# Altium footprint library TECLADO-G5-5A.pcbLib.PcbLib: 15 footprints
Each footprint in its own frame and in the unit in brackets; x right, y up, seen from the top. Pads: shape width x height; smd on the part's side, far side on the other; paste and mask are expansions set on the pad; w line width, h text height; cw(c..) or ccw(c..) is an arc to the next point about the centre after c.
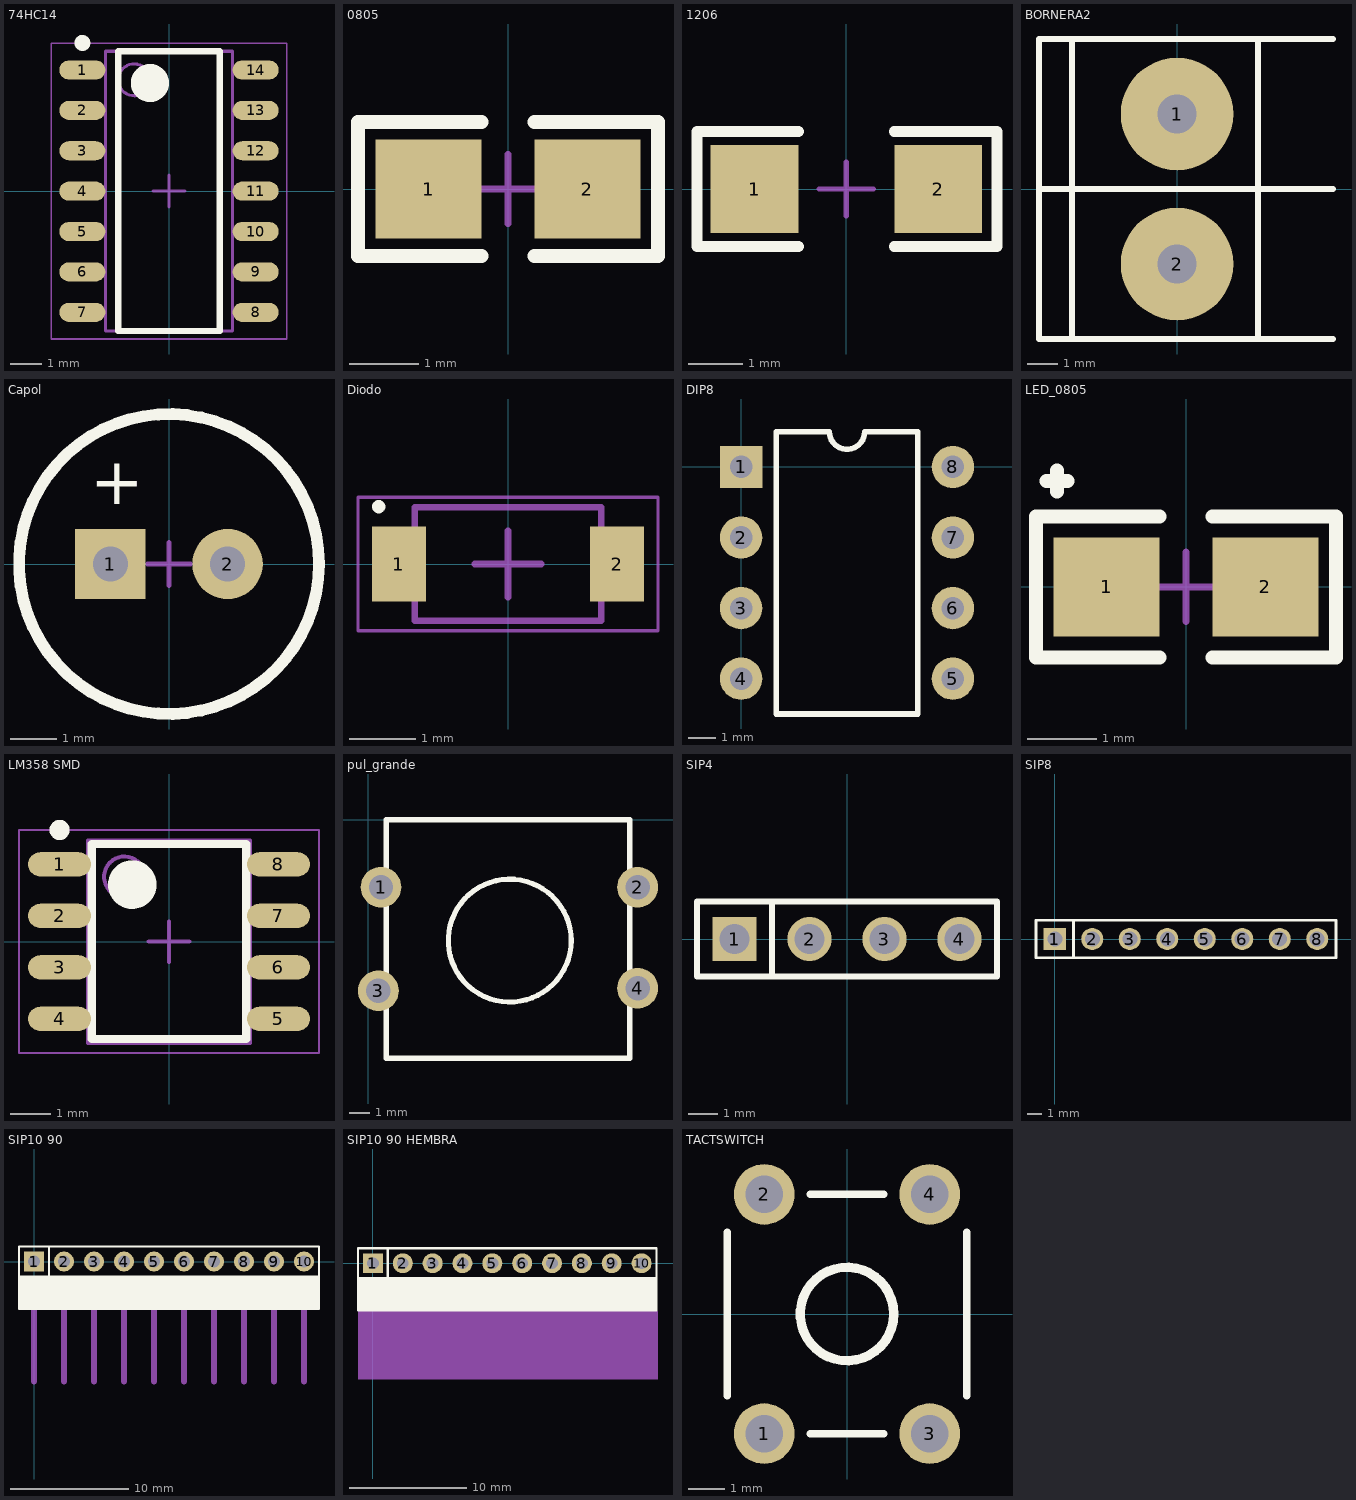
[diagram p0: the footprints below, top view; thin cyan lines are the x and y axes]

## 74HC14 [mm] "six_inverting_schmitt_trigger"
height 1.75
pads (14):
  oval 1.45x0.6 smd: 1(-2.725,3.81) 2(-2.725,2.54) 3(-2.725,1.27) 4(-2.725,0) 5(-2.725,-1.27) 6(-2.725,-2.54) 7(-2.725,-3.81) 8(2.725,-3.81) 9(2.725,-2.54) 10(2.725,-1.27) 11(2.725,0) 12(2.725,1.27) 13(2.725,2.54) 14(2.725,3.81)
Top Overlay:
  circle w0.25: c-2.725,4.66 r0.125
  circle w0.6: c-0.6,3.4 r0.3
  lines w0.2: -1.6,-4.4 -1.6,4.4 1.6,4.4 1.6,-4.4 -1.6,-4.4
Mechanical 13:
  circle w0.1: c-1.1,3.5 r0.5
  lines w0.1: -2,-4.4 -2,4.4 2,4.4 2,-4.4 -2,-4.4
Mechanical 15:
  lines w0.05: -3.7,-4.65 -3.7,4.65 3.7,4.65 3.7,-4.65 -3.7,-4.65
  lines w0.1: -0.5,0 0.5,0 ; 0,-0.5 0,0.5
3D body: height 1.75, standoff 0.1, extent -2,-4.4 2,4.4

## 0805 [mil] "Pasivo 0805"
height 27.56
pads (2):
  rect 60x56 smd: 1(-45,0) 2(45,0)
Top Overlay:
  lines w7.87: -85,-38 -85,38 -15,38 ; -84,-38 -15,-38 ; 15,-38 85,-38 85,38 15,38
Mechanical 15:
  lines w3.94: -19.69,0 19.68,0 ; 0,-19.68 0,19.68
3D body: height 15.35, standoff -0.79, extent -39.5,-24.5 39.24,24.71

## 1206 [mil] "Pasivo 1206"
height 27.56
pads (2):
  rect 64x64 smd: 1(-67,0) 2(67,0)
Top Overlay:
  lines w7.87: -109,41 -109,-42 -35,-42 ; -109,42 -35,42 ; 35,-42 109,-42 ; 35,42 110,42 110,-42
Mechanical 15:
  lines w3.94: -19.68,0 19.69,0 ; 0,-19.68 0,19.69
3D body: height 19.68, standoff -0.39, extent -62.5,-31.5 63.48,31.49

## BORNERA2 [mm] "Bornera con Tornillos 5mm separaci�n"
pads (2):
  round 3.75 hole 1.3: 1(0,2.5) 2(0,-2.5)
Top Overlay:
  lines w0.2: -4.6,0 5.2,0 ; -3.5,-5 -3.5,5 ; 2.7,-5 2.7,5 ; 5.2,-5 -4.6,-5 -4.6,5 5.2,5
3D body: height 10, standoff -2.28, extent -3.763,-4.892 3.937,5.607

## Capol [mil] "Body diameter 6.5mm"
pads (2):
  rect 60x60 hole 30: 1(-50,0)
  round 60 hole 30: 2(50,0)
Top Overlay:
  circle w10: c0,0 r127.95
  text "+" at -67,51 h40
Mechanical 15:
  lines w3.94: -18.7,0 18.7,0 ; 0,-18.7 0,18.7
3D body: height 453.76, standoff -118.67, extent -124,-125.02 126.03,125.02

## Diodo [mm] "SODFL, 2-Leads, Body 1,60x3,60mm, IPC Medium Density"
height 1.3
pads (2):
  rect 0.81x1.12 smd: 1(-1.635,0) 2(1.635,0)
Top Overlay:
  circle w0.1: c-1.94,0.86 r0.05
Mechanical 13:
  lines w0.1: -1.4,-0.85 1.4,-0.85 1.4,0.85 -1.4,0.85 -1.4,-0.85
Mechanical 15:
  lines w0.05: -2.25,-1 2.25,-1 2.25,1 -2.25,1 -2.25,-1
  lines w0.1: -0.5,0 0.5,0 ; 0,-0.5 0,0.5
3D body: height 1.3, standoff 0, extent -1.4,-0.85 1.4,0.85

## DIP8 [mil]
pads (8):
  rect 60x60 hole 32: 1(0,0)
  round 60 hole 32: 2(0,-100) 3(0,-200) 4(0,-300) 5(300,-300) 6(300,-200) 7(300,-100) 8(300,0)
Top Overlay:
  lines w7.87: 50,-350 50,50 125,50 ccw(c150,50) 175,50 250,50 250,-350 50,-350
3D body: height 177.17, standoff -137.8, extent -2.54,-362.6 303,62.6

## LED_0805 [mil] "LED SMD 0805"
height 27.56
pads (2):
  rect 60x56 smd: 1(-45,0) 2(45,0)
Top Overlay:
  lines w7.87: -79,60 -67,60 ; -73,54 -73,66 ; -15,-40 -85,-40 -85,40 -15,40 ; 15,-40 85,-40 85,40 15,40
Mechanical 15:
  lines w3.94: -19.69,0 19.68,0 ; 0,-19.68 0,19.68
3D body: height 33.45, standoff 0.23, extent -40.6,-17.68 40.6,18

## LM358 SMD [mm]
height 1.75
pads (8):
  oval 1.55x0.6 smd: 1(-2.7,1.905) 2(-2.7,0.635) 3(-2.7,-0.635) 4(-2.7,-1.905) 5(2.7,-1.905) 6(2.7,-0.635) 7(2.7,0.635) 8(2.7,1.905)
Top Overlay:
  circle w0.25: c-2.7,2.755 r0.125
  circle w0.6: c-0.905,1.405 r0.3
  lines w0.2: -1.905,-2.405 -1.905,2.405 1.905,2.405 1.905,-2.405 -1.905,-2.405
Mechanical 13:
  circle w0.1: c-1.1,1.6 r0.5
  lines w0.1: -2,-2.5 -2,2.5 2,2.5 2,-2.5 -2,-2.5
Mechanical 15:
  lines w0.05: -3.7,-2.75 -3.7,2.75 3.7,2.75 3.7,-2.75 -3.7,-2.75
  lines w0.1: -0.5,0 0.5,0 ; 0,-0.5 0,0.5
3D body: height 1.75, standoff 0.25, extent -2,-2.5 2,2.5

## pul_grande [mm]
pads (4):
  round 2 hole 1.2: 1(0.635,-3.302) 2(13.208,-3.302) 3(0.508,-8.382) 4(13.208,-8.255)
Top Overlay:
  circle w0.254: c6.943,-5.921 r3.011
  lines w0.254: 0.889,-11.684 12.827,-11.684 12.827,0 0.889,0 0.889,-11.684
3D body: height 9.3, standoff -1.5, extent -0.042,-11.842 13.758,0.158

## SIP4 [mm]
pads (4):
  rect 1.5x1.5 hole 1.016: 1(-3.81,0)
  round 1.5 hole 1.016: 2(-1.27,0) 3(1.27,0) 4(3.81,0)
Top Overlay:
  lines w0.2: -2.54,-1.27 -2.54,1.27 ; -5.08,-1.27 -5.08,1.27 5.08,1.27 5.08,-1.27 -5.08,-1.27
3D body: height 8.38, standoff -2.54, extent -5.08,-1.27 5.08,1.27

## SIP8 [mm]
pads (8):
  rect 1.5x1.5 hole 1.016: 1(0,0)
  round 1.5 hole 1.016: 2(2.54,0) 3(5.08,0) 4(7.62,0) 5(10.16,0) 6(12.7,0) 7(15.24,0) 8(17.78,0)
Top Overlay:
  lines w0.2: 1.27,-1.27 1.27,1.27 ; -1.27,-1.27 -1.27,1.27 19.05,1.27 19.05,-1.27 -1.27,-1.27
3D body: height 8.38, standoff -2.54, extent -1.27,-1.27 8.89,1.27
3D body: height 8.38, standoff -2.54, extent 8.89,-1.27 19.05,1.27

## SIP10 90 [mm]
pads (10):
  rect 1.7x1.7 hole 1.016: 1(0,0)
  round 1.7 hole 1.016: 2(2.54,0) 3(5.08,0) 4(7.62,0) 5(10.16,0) 6(12.7,0) 7(15.24,0) 8(17.78,0) 9(20.32,0) 10(22.86,0)
Top Overlay:
  rectangle: 21.59,-4 24.13,-1.27
  rectangle: 19.05,-4 21.59,-1.27
  rectangle: 16.51,-4 19.05,-1.27
  rectangle: 13.97,-4 16.51,-1.27
  rectangle: 11.43,-4 13.97,-1.27
  rectangle: 8.89,-4 11.43,-1.27
  rectangle: 6.35,-4 8.89,-1.27
  rectangle: 3.81,-4 6.35,-1.27
  rectangle: 1.27,-4 3.81,-1.27
  rectangle: -1.27,-4 1.27,-1.27
  lines w0.2: 1.27,1.27 1.27,-1.27 ; -1.27,-1.27 -1.27,-4 1.27,-4 ; -1.27,-1.27 -1.27,1.27 24.13,1.27 24.13,-1.27 ; -1.27,-1.27 24.13,-1.27 ; 1.27,-4 3.81,-4 ; 1.27,-4 1.27,-1.27 ; 1.27,-4 1.27,-1.27 ; 3.81,-4 6.35,-4 ; 3.81,-4 3.81,-1.27 3.81,-4 ; 6.35,-4 8.89,-4 ; 6.35,-4 6.35,-1.27 6.35,-4 ; 8.89,-4 11.43,-4 ; 8.89,-4 8.89,-1.27 8.89,-4 ; 11.43,-4 13.97,-4 ; 11.43,-4 11.43,-1.27 11.43,-4 ; 13.97,-4 16.51,-4 ; 13.97,-4 13.97,-1.27 13.97,-4 ; 16.51,-4 19.05,-4 ; 16.51,-4 16.51,-1.27 16.51,-4 ; 19.05,-4 21.59,-4 ; 19.05,-4 19.05,-1.27 19.05,-4 ; 21.59,-4 24.13,-4 24.13,-1.27 ; 21.59,-4 21.59,-1.27 21.59,-4
Mechanical 1:
  lines w0.508: 0,-10.16 0,-4.064 ; 2.54,-10.16 2.54,-4.064 ; 5.08,-10.16 5.08,-4.064 ; 7.62,-10.16 7.62,-4.064 ; 10.16,-10.16 10.16,-4.064 ; 12.7,-10.16 12.7,-4.064 ; 15.24,-10.16 15.24,-4.064 ; 17.78,-10.16 17.78,-4.064 ; 20.32,-10.16 20.32,-4.064 ; 22.86,-10.16 22.86,-4.064
3D body: height 3.76, standoff -4.72, extent 19.05,-9.938 24.13,0.286
3D body: height 3.76, standoff -4.72, extent 13.97,-9.938 19.05,0.286
3D body: height 3.76, standoff -4.72, extent 8.89,-9.938 13.97,0.286
3D body: height 3.76, standoff -4.72, extent 3.81,-9.938 8.89,0.286
3D body: height 3.76, standoff -4.72, extent -1.27,-9.938 3.81,0.286

## SIP10 90 HEMBRA [mm]
pads (10):
  rect 1.7x1.7 hole 1.016: 1(0,0)
  round 1.7 hole 1.016: 2(2.54,0) 3(5.08,0) 4(7.62,0) 5(10.16,0) 6(12.7,0) 7(15.24,0) 8(17.78,0) 9(20.32,0) 10(22.86,0)
Top Overlay:
  rectangle: 21.59,-4 24.13,-1.27
  rectangle: 19.05,-4 21.59,-1.27
  rectangle: 16.51,-4 19.05,-1.27
  rectangle: 13.97,-4 16.51,-1.27
  rectangle: 11.43,-4 13.97,-1.27
  rectangle: 8.89,-4 11.43,-1.27
  rectangle: 6.35,-4 8.89,-1.27
  rectangle: 3.81,-4 6.35,-1.27
  rectangle: 1.27,-4 3.81,-1.27
  rectangle: -1.27,-4 1.27,-1.27
  lines w0.2: 1.27,1.27 1.27,-1.27 ; -1.27,-1.27 -1.27,-4 1.27,-4 ; -1.27,-1.27 -1.27,1.27 24.13,1.27 24.13,-1.27 ; -1.27,-1.27 24.13,-1.27 ; 1.27,-4 3.81,-4 ; 1.27,-4 1.27,-1.27 ; 1.27,-4 1.27,-1.27 ; 3.81,-4 6.35,-4 ; 3.81,-4 3.81,-1.27 3.81,-4 ; 6.35,-4 8.89,-4 ; 6.35,-4 6.35,-1.27 6.35,-4 ; 8.89,-4 11.43,-4 ; 8.89,-4 8.89,-1.27 8.89,-4 ; 11.43,-4 13.97,-4 ; 11.43,-4 11.43,-1.27 11.43,-4 ; 13.97,-4 16.51,-4 ; 13.97,-4 13.97,-1.27 13.97,-4 ; 16.51,-4 19.05,-4 ; 16.51,-4 16.51,-1.27 16.51,-4 ; 19.05,-4 21.59,-4 ; 19.05,-4 19.05,-1.27 19.05,-4 ; 21.59,-4 24.13,-4 24.13,-1.27 ; 21.59,-4 21.59,-1.27 21.59,-4
Mechanical 1:
  rectangle: -1.27,-9.906 24.257,-4.064
3D body: height 3.76, standoff -4.72, extent 19.05,-9.938 24.13,0.286
3D body: height 3.76, standoff -4.72, extent 13.97,-9.938 19.05,0.286
3D body: height 3.76, standoff -4.72, extent 8.89,-9.938 13.97,0.286
3D body: height 3.76, standoff -4.72, extent 3.81,-9.938 8.89,0.286
3D body: height 3.76, standoff -4.72, extent -1.27,-9.938 3.81,0.286

## TACTSWITCH [mil]
pads (4):
  round 65 hole 40: 1(-88.58,-127.95) 2(-88.58,127.95) 3(88.58,-127.95) 4(88.58,127.95)
Top Overlay:
  circle w10: c0,0 r50
  lines w7.87: -128.11,-87.48 -128.11,87.52 ; -39.37,-128.11 39.37,-128.11 ; -39.37,128.11 39.37,128.11 ; 128.11,-87.52 128.11,87.48
3D body: height 275.59, standoff -137.8, extent -120,-155.51 124.09,155.51